# Altium schematic symbol library SPW47N60.SchLib: 1 symbol
Pins are listed as number, name and electrical type; pins without a type are passive.

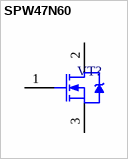
[diagram p0: symbol SPW47N60]

## SPW47N60
designator VT?  (value not drawn)
footprint TO-247-3(Infineon)
pins: 1 GATE, 2 DRAIN, 3 SOURCE